# Altium schematic symbol library de0parts.SchLib: 1 symbol
Pins are listed as number, name and electrical type; pins without a type are passive.

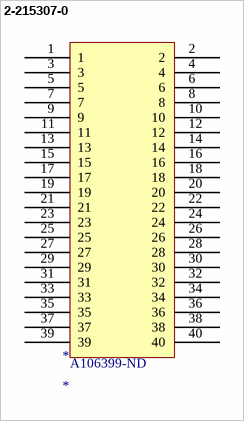
[diagram p0: symbol 2-215307-0]

## 2-215307-0
designator *  Supplier Part Number 1: A106399-ND
CONN RCPT 40POS VERT T/H; Manufacturer: TE Connectivity AMP Connectors; Manufacturer Part Number: 2-215307-0; Connector Type: Receptacle; Number of Positions: 40; Number of Positions Loaded: All; Pitch: 0.100" (2.54mm); Supplier 1: Digi-Key; RoHS: RoHS Compliant; Category: Connectors, Interconnects; Stock 1: 345; Pricing 1: 1=4.65, 25=4.18, 50=3.94, 100=3.47, 500=3.36 (USD); Packaging: Bulk; Number of Rows: 2; Row Spacing: 0.100" (2.54mm); Height Stacking (Mating): -; Height Above Board: 0.275" (7.00mm); Mounting Type: Through Hole; Termination: Press-Fit; Contact Finish: Gold; Contact Finish Thickness: 31.5µin (0.80µm); Features: -; Color: Green; ComponentLink1URL: http://www.te.com/commerce/DocumentDelivery/DDEController?Action=srchrtrv&DocNm=215307&DocType=Customer+Drawing&DocLang=English; ComponentLink1Description: http://www.te.com/commerce/DocumentDelivery/DDEController?Action=srchrtrv&DocNm=215307&DocType=Customer+Drawing&DocLang=English
footprint RCPT_40POS (CONN RCPT 40POS)
pins: 1, 2, 3, 4, 5, 6, 7, 8, 9, 10, 11, 12, 13, 14, 15, 16, 17, 18, 19, 20, 21, 22, 23, 24, 25, 26, 27, 28, 29, 30, 31, 32, 33, 34, 35, 36, 37, 38, 39, 40